# EAGLE library part DS8921 (library Transputer)
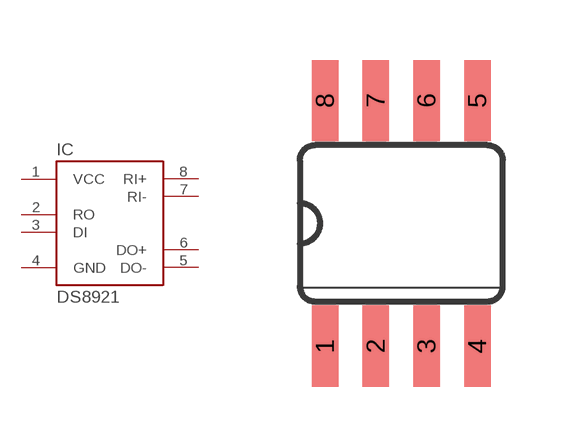
[diagram p7: symbol with the pads of SO8; footprint SO8]

Designator prefix IC

## DS8921  [SO8]
1  VCC  sup
2  RO  out
3  DI  in
4  GND  sup
5  DO-  out
6  DO+  out
7  RI-  in
8  RI+  in

## Footprint SO8 (pad centres in mm)
smd 0.66 x 2.032: 1 -1.905,-3.073; 2 -0.635,-3.073; 3 0.635,-3.073; 4 1.905,-3.073; 5 1.905,3.073; 6 0.635,3.073; 7 -0.635,3.073; 8 -1.905,3.073